# Altium schematic symbol library BNC 50OHM Edge ACX2259.SchLib: 1 symbol
Pins are listed as number, name and electrical type; pins without a type are passive.

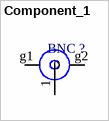
[diagram p0: symbol Component_1]

## Component_1
designator BNC ?  (value not drawn)
CONN BNC JACK 50 OHM EDGE MNT; Supplier 1: Digi-Key; Supplier Part Number 1: ACX2259-ND
footprint BNC 50OHM EDGE ACX2259
pins: 1 Signal, g1 2, g2 0